# Altium schematic symbol library SCH - POWER - SWITCHMODE - TI TPS63051RMW.SchLib: 1 symbol
Pins are listed as number, name and electrical type; pins without a type are passive.

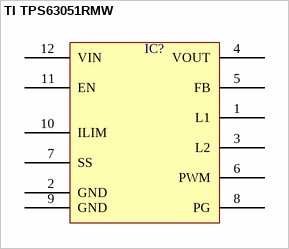
[diagram p0: symbol TI TPS63051RMW]

## TI TPS63051RMW
designator IC?  (value not drawn)
pins: 1 L1, 2 GND, 3 L2, 4 VOUT, 5 FB, 6 PWM, 7 SS, 8 PG, 9 GND, 10 ILIM, 11 EN, 12 VIN